# Altium integrated library TI_Logic_Flip-Flop,Latch,Register.IntLib: 2598 symbols (part 41 of 122)
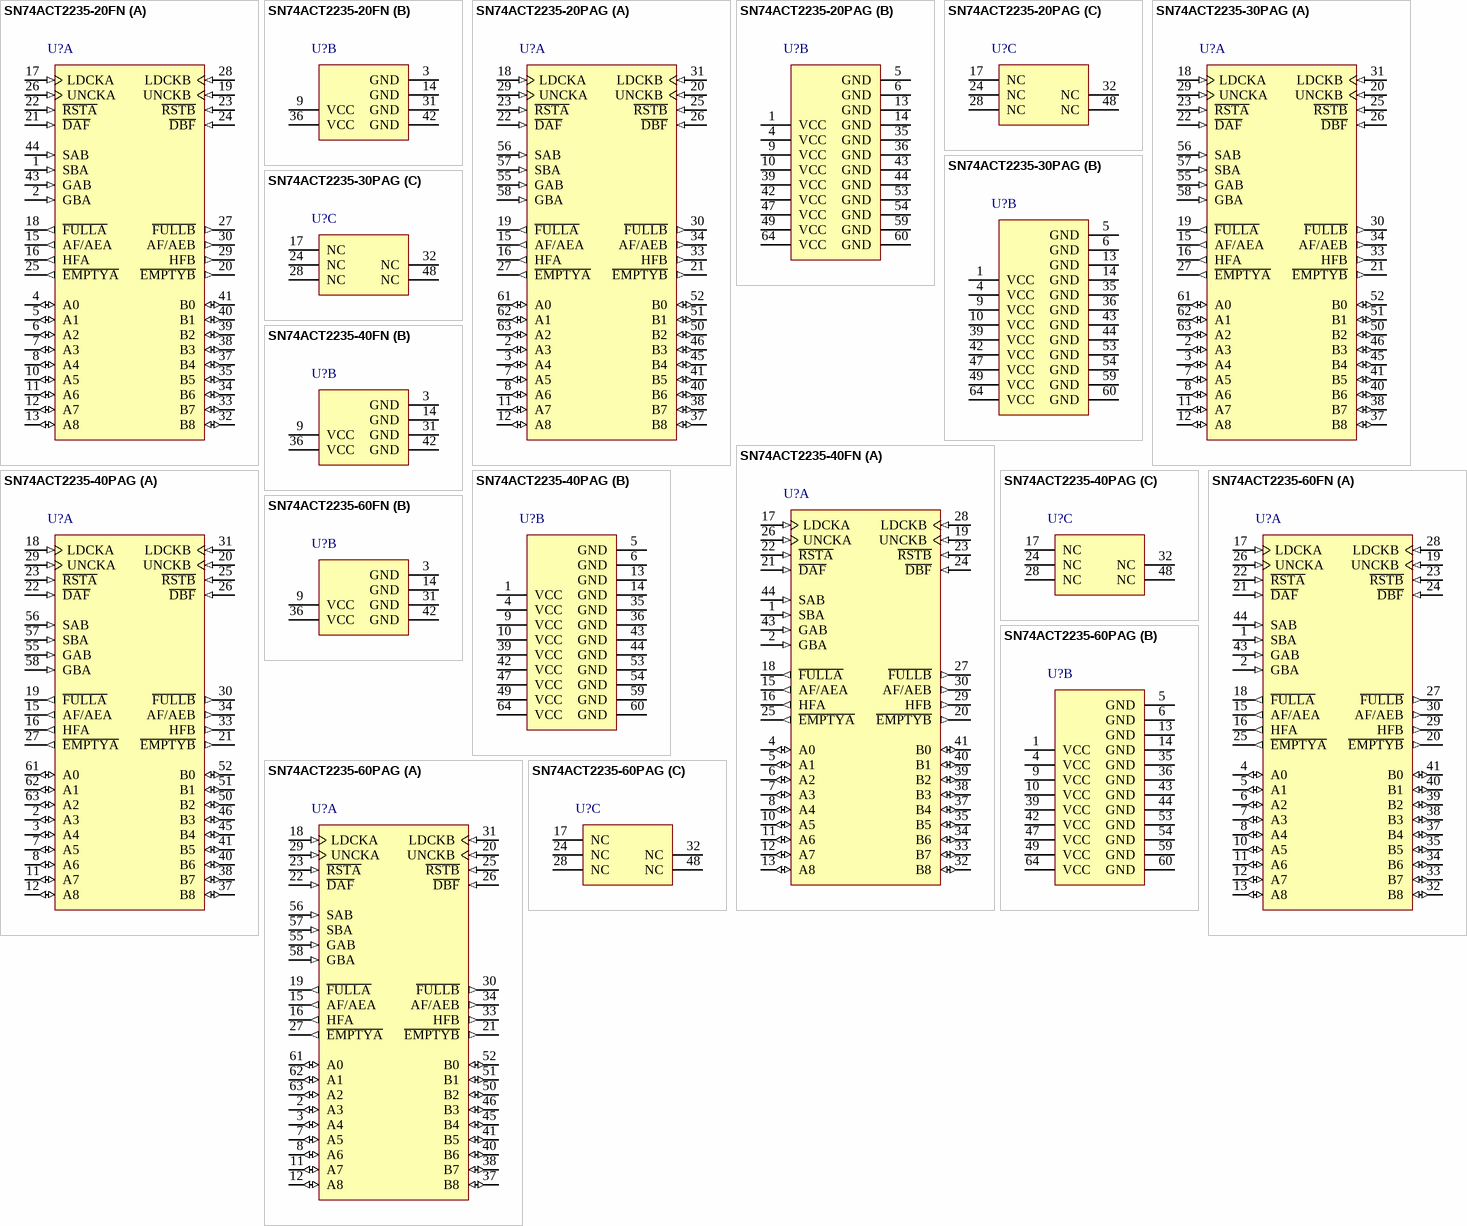
[diagram p179: symbols SN74ACT2235-20FN to SN74ACT2235-60PAG]

## SN74ACT2235-40FN
designator U?
1024 x 9 x 2 Asynchronous Bidirectional FIFO Memory, FN0044A, TUBE; Generic Part Number: SN74ACT2235; Manufacturer: Texas Instruments; PartNumber: SN74ACT2235-40FN; Vcc range(V): 4.5 to 5.5; Fmax(MHz): 25; Voltage Nodes(V): 5; Sync/Async: A; Rating: Catalog; Output Drive(mA): -0.5; Flags Empty: YES; DatasheetVersion: SCAS148F; PackageReference: FN0044A; Depth: 1024; Width: 9; Operating Temperature Range(C): 0 to 70; Flags Full: YES; Flags Half: YES; Code_JEDEC: MS-018; ComponentLink1Description: Manufacturer URL; ComponentLink1URL: http://www.ti.com/; ComponentLink2Description: Datasheet; ComponentLink2URL: http://www.ti.com/lit/ds/symlink/sn74act2235.pdf; ComponentLink3Description: Package Specification; ComponentLink3URL: http://www.ti.com/lit/ml/mplc004a/mplc004a.pdf
footprint FN0044A_N (PLCC, 44-Leads, Body 16.66x16.66mm, Pitch 1.27mm, IPC Medium Density)
footprint FN0044A_M (PLCC, 44-Leads, Body 16.66x16.66mm, Pitch 1.27mm, IPC Low Density)
footprint FN0044A_L (PLCC, 44-Leads, Body 16.66x16.66mm, Pitch 1.27mm, IPC High Density)
part A pins: 1 SBA (in) "Select-control inputs. SAB and SBA select whether real-time or stored data is transferred. A low level selects real-time data and a high level selects stored data. Eight fundamental bus-management functions can be performed (See Datasheet)", 2 GBA (in) "Output enables. GAB, GBA control the transceiver functions. When GBA is low, A0-A8 are in the high-impedance state. When GAB is low, B0-B8 are in the high-impedance state.", 4 A0 (io) "A-data inputs and outputs", 5 A1 (io) "A-data inputs and outputs", 6 A2 (io) "A-data inputs and outputs", 7 A3 (io) "A-data inputs and outputs", 8 A4 (io) "A-data inputs and outputs", 10 A5 (io) "A-data inputs and outputs", 11 A6 (io) "A-data inputs and outputs", 12 A7 (io) "A-data inputs and outputs", 13 A8 (io) "A-data inputs and outputs", 15 AF/AEA (out) "Almost full/almost empty flags. The almost-full/almost-empty A flag (AF/AEA) is defined by the almost-full/almost-empty offset value for FIFO A (X). AF/AEA is high when FIFO A contains X or fewer words or 1024 - X words. (See Datasheet)", 16 HFA (out) "Half-full flags. HFA and HFB are high when their corresponding memories contain 512 or more words and low when they contain 511 or fewer words.", 17 LDCKA (in) "Load clocks. Data on A0-A8 is written into FIFO A on a low-to-high transition of LDCKA. Data on B0-B8 is written into FIFO B on a low-to-high transition of LDCKB. When the FIFOs are full, LDCKA and LDCKB have no effect on (See Datasheet)", 18 ~{FULLA} (out) "Full flags. F\U\L\L\A\ and F\U\L\L\B\ are low when their corresponding memories are full and high when they are not full.", 19 UNCKB (in) "Unload clocks. Data in FIFO A is read to B0-B8 on a low-to-high transition of UNCKA. Data in FIFO B is read to A0-A8 on a low-to-high transition of UNCKB. When the FIFOs are empty, UNCKA and UNCKB have no effect on data (See Datasheet)", 20 ~{EMPTYB} (out) "Empty flags. E\M\P\T\Y\A\ and E\M\P\T\Y\B\ are low when their corresponding memories are empty and high when they are not empty.", 21 ~{DAF} (in) "Define-flag inputs. The high-to-low transition of D\A\F\ stores the binary value on A0-A8 as the almost-full/almost-empty offset value for FIFO A (X). The high-to-low transition of D\B\F\ stores the binary value of B0-B8 as (See Datasheet)", 22 ~{RSTA} (in) "Reset. A reset is accomplished in each direction by taking R\S\T\A\ and R\S\T\B\ low. This sets E\M\P\T\Y\A\, E\M\P\T\Y\B\, F\U\L\L\A\, F\U\L\L\B\, and AF/AEB high. Both FIFOs must be reset upon power up.", 23 ~{RSTB} (in) "Reset. A reset is accomplished in each direction by taking R\S\T\A\ and R\S\T\B\ low. This sets E\M\P\T\Y\A\, E\M\P\T\Y\B\, F\U\L\L\A\, F\U\L\L\B\, and AF/AEB high. Both FIFOs must be reset upon power up.", 24 ~{DBF} (in) "Define-flag inputs. The high-to-low transition of D\A\F\ stores the binary value on A0-A8 as the almost-full/almost-empty offset value for FIFO A (X). The high-to-low transition of D\B\F\ stores the binary value of B0-B8 as (See Datasheet)", 25 ~{EMPTYA} (out) "Empty flags. E\M\P\T\Y\A\ and E\M\P\T\Y\B\ are low when their corresponding memories are empty and high when they are not empty.", 26 UNCKA (in) "Unload clocks. Data in FIFO A is read to B0-B8 on a low-to-high transition of UNCKA. Data in FIFO B is read to A0-A8 on a low-to-high transition of UNCKB. When the FIFOs are empty, UNCKA and UNCKB have no effect on data (See Datasheet)", 27 ~{FULLB} (out) "Full flags. F\U\L\L\A\ and F\U\L\L\B\ are low when their corresponding memories are full and high when they are not full.", 28 LDCKB (in) "Load clocks. Data on A0-A8 is written into FIFO A on a low-to-high transition of LDCKA. Data on B0-B8 is written into FIFO B on a low-to-high transition of LDCKB. When the FIFOs are full, LDCKA and LDCKB have no effect on (See Datasheet)", 29 HFB (out) "Half-full flags. HFA and HFB are high when their corresponding memories contain 512 or more words and low when they contain 511 or fewer words.", 30 AF/AEB (out) "Almost full/almost empty flags. The almost-full/almost-empty A flag (AF/AEA) is defined by the almost-full/almost-empty offset value for FIFO A (X). AF/AEA is high when FIFO A contains X or fewer words or 1024 - X words. (See Datasheet)", 32 B8 (io) "B-data inputs and outputs", 33 B7 (io) "B-data inputs and outputs", 34 B6 (io) "B-data inputs and outputs", 35 B5 (io) "B-data inputs and outputs", 37 B4 (io) "B-data inputs and outputs", 38 B3 (io) "B-data inputs and outputs", 39 B2 (io) "B-data inputs and outputs", 40 B1 (io) "B-data inputs and outputs", 41 B0 (io) "B-data inputs and outputs", 43 GAB (in) "Output enables. GAB, GBA control the transceiver functions. When GBA is low, A0-A8 are in the high-impedance state. When GAB is low, B0-B8 are in the high-impedance state.", 44 SAB (in) "Select-control inputs. SAB and SBA select whether real-time or stored data is transferred. A low level selects real-time data and a high level selects stored data. Eight fundamental bus-management functions can be performed (See Datasheet)"
part B pins: 3 GND (power), 9 VCC (power), 14 GND (power), 31 GND (power), 36 VCC (power), 42 GND (power)

## SN74ACT2235-40PAG
designator U?
1024 x 9 x 2 Asynchronous Bidirectional FIFO Memory, PAG0064A, JEDEC TRAY (10+1); Generic Part Number: SN74ACT2235; Manufacturer: Texas Instruments; PartNumber: SN74ACT2235-40PAG; Vcc range(V): 4.5 to 5.5; Fmax(MHz): 25; Voltage Nodes(V): 5; Sync/Async: A; Rating: Catalog; Output Drive(mA): -0.5; Flags Empty: YES; DatasheetVersion: SCAS148F; PackageReference: PAG0064A; Depth: 1024; Width: 9; Operating Temperature Range(C): 0 to 70; Flags Full: YES; Flags Half: YES; Code_JEDEC: MS-026; ComponentLink1Description: Manufacturer URL; ComponentLink1URL: http://www.ti.com/; ComponentLink2Description: Datasheet; ComponentLink2URL: http://www.ti.com/lit/ds/symlink/sn74act2235.pdf; ComponentLink3Description: Package Specification; ComponentLink3URL: http://www.ti.com/lit/ml/mtqf006a/mtqf006a.pdf
footprint PAG0064A_N (QFP, 64-Leads, Body 10x10mm, Pitch 0.5mm, IPC Medium Density)
footprint PAG0064A_M (QFP, 64-Leads, Body 10x10mm, Pitch 0.5mm, IPC Low Density)
footprint PAG0064A_L (QFP, 64-Leads, Body 10x10mm, Pitch 0.5mm, IPC High Density)
part A pins: 2 A3 (io) "A-data inputs and outputs", 3 A4 (io) "A-data inputs and outputs", 7 A5 (io) "A-data inputs and outputs", 8 A6 (io) "A-data inputs and outputs", 11 A7 (io) "A-data inputs and outputs", 12 A8 (io) "A-data inputs and outputs", 15 AF/AEA (out) "Almost full/almost empty flags. The almost-full/almost-empty A flag (AF/AEA) is defined by the almost-full/almost-empty offset value for FIFO A (X). AF/AEA is high when FIFO A contains X or fewer words or 1024 - X words. (See Datasheet)", 16 HFA (out) "Half-full flags. HFA and HFB are high when their corresponding memories contain 512 or more words and low when they contain 511 or fewer words.", 18 LDCKA (in) "Load clocks. Data on A0-A8 is written into FIFO A on a low-to-high transition of LDCKA. Data on B0-B8 is written into FIFO B on a low-to-high transition of LDCKB. When the FIFOs are full, LDCKA and LDCKB have no effect on (See Datasheet)", 19 ~{FULLA} (out) "Full flags. F\U\L\L\A\ and F\U\L\L\B\ are low when their corresponding memories are full and high when they are not full.", 20 UNCKB (in) "Unload clocks. Data in FIFO A is read to B0-B8 on a low-to-high transition of UNCKA. Data in FIFO B is read to A0-A8 on a low-to-high transition of UNCKB. When the FIFOs are empty, UNCKA and UNCKB have no effect on data (See Datasheet)", 21 ~{EMPTYB} (out) "Empty flags. E\M\P\T\Y\A\ and E\M\P\T\Y\B\ are low when their corresponding memories are empty and high when they are not empty.", 22 ~{DAF} (in) "Define-flag inputs. The high-to-low transition of D\A\F\ stores the binary value on A0-A8 as the almost-full/almost-empty offset value for FIFO A (X). The high-to-low transition of D\B\F\ stores the binary value of B0-B8 as (See Datasheet)", 23 ~{RSTA} (in) "Reset. A reset is accomplished in each direction by taking R\S\T\A\ and R\S\T\B\ low. This sets E\M\P\T\Y\A\, E\M\P\T\Y\B\, F\U\L\L\A\, F\U\L\L\B\, and AF/AEB high. Both FIFOs must be reset upon power up.", 25 ~{RSTB} (in) "Reset. A reset is accomplished in each direction by taking R\S\T\A\ and R\S\T\B\ low. This sets E\M\P\T\Y\A\, E\M\P\T\Y\B\, F\U\L\L\A\, F\U\L\L\B\, and AF/AEB high. Both FIFOs must be reset upon power up.", 26 ~{DBF} (in) "Define-flag inputs. The high-to-low transition of D\A\F\ stores the binary value on A0-A8 as the almost-full/almost-empty offset value for FIFO A (X). The high-to-low transition of D\B\F\ stores the binary value of B0-B8 as (See Datasheet)", 27 ~{EMPTYA} (out) "Empty flags. E\M\P\T\Y\A\ and E\M\P\T\Y\B\ are low when their corresponding memories are empty and high when they are not empty.", 29 UNCKA (in) "Unload clocks. Data in FIFO A is read to B0-B8 on a low-to-high transition of UNCKA. Data in FIFO B is read to A0-A8 on a low-to-high transition of UNCKB. When the FIFOs are empty, UNCKA and UNCKB have no effect on data (See Datasheet)", 30 ~{FULLB} (out) "Full flags. F\U\L\L\A\ and F\U\L\L\B\ are low when their corresponding memories are full and high when they are not full.", 31 LDCKB (in) "Load clocks. Data on A0-A8 is written into FIFO A on a low-to-high transition of LDCKA. Data on B0-B8 is written into FIFO B on a low-to-high transition of LDCKB. When the FIFOs are full, LDCKA and LDCKB have no effect on (See Datasheet)", 33 HFB (out) "Half-full flags. HFA and HFB are high when their corresponding memories contain 512 or more words and low when they contain 511 or fewer words.", 34 AF/AEB (out) "Almost full/almost empty flags. The almost-full/almost-empty A flag (AF/AEA) is defined by the almost-full/almost-empty offset value for FIFO A (X). AF/AEA is high when FIFO A contains X or fewer words or 1024 - X words. (See Datasheet)", 37 B8 (io) "B-data inputs and outputs", 38 B7 (io) "B-data inputs and outputs", 40 B6 (io) "B-data inputs and outputs", 41 B5 (io) "B-data inputs and outputs", 45 B4 (io) "B-data inputs and outputs", 46 B3 (io) "B-data inputs and outputs", 50 B2 (io) "B-data inputs and outputs", 51 B1 (io) "B-data inputs and outputs", 52 B0 (io) "B-data inputs and outputs", 55 GAB (in) "Output enables. GAB, GBA control the transceiver functions. When GBA is low, A0-A8 are in the high-impedance state. When GAB is low, B0-B8 are in the high-impedance state.", 56 SAB (in) "Select-control inputs. SAB and SBA select whether real-time or stored data is transferred. A low level selects real-time data and a high level selects stored data. Eight fundamental bus-management functions can be performed (See Datasheet)", 57 SBA (in) "Select-control inputs. SAB and SBA select whether real-time or stored data is transferred. A low level selects real-time data and a high level selects stored data. Eight fundamental bus-management functions can be performed (See Datasheet)", 58 GBA (in) "Output enables. GAB, GBA control the transceiver functions. When GBA is low, A0-A8 are in the high-impedance state. When GAB is low, B0-B8 are in the high-impedance state.", 61 A0 (io) "A-data inputs and outputs", 62 A1 (io) "A-data inputs and outputs", 63 A2 (io) "A-data inputs and outputs"
part B pins: 1 VCC (power), 4 VCC (power), 5 GND (power), 6 GND (power), 9 VCC (power), 10 VCC (power), 13 GND (power), 14 GND (power), 35 GND (power), 36 GND (power), 39 VCC (power), 42 VCC (power), 43 GND (power), 44 GND (power), 47 VCC (power), 49 VCC (power), 53 GND (power), 54 GND (power), 59 GND (power), 60 GND (power), 64 VCC (power)
part C pins: 17 NC "No internal connection", 24 NC "No internal connection", 28 NC "No internal connection", 32 NC "No internal connection", 48 NC "No internal connection"

## SN74ACT2235-60FN
designator U?
1024 x 9 x 2 Asynchronous Bidirectional FIFO Memory, FN0044A, TUBE; Generic Part Number: SN74ACT2235; Manufacturer: Texas Instruments; PartNumber: SN74ACT2235-60FN; Vcc range(V): 4.5 to 5.5; Fmax(MHz): 16.7; Voltage Nodes(V): 5; Sync/Async: A; Rating: Catalog; Output Drive(mA): -0.5; Flags Empty: YES; DatasheetVersion: SCAS148F; PackageReference: FN0044A; Depth: 1024; Width: 9; Operating Temperature Range(C): 0 to 70; Flags Full: YES; Flags Half: YES; Code_JEDEC: MS-018; ComponentLink1Description: Manufacturer URL; ComponentLink1URL: http://www.ti.com/; ComponentLink2Description: Datasheet; ComponentLink2URL: http://www.ti.com/lit/ds/symlink/sn74act2235.pdf; ComponentLink3Description: Package Specification; ComponentLink3URL: http://www.ti.com/lit/ml/mplc004a/mplc004a.pdf
footprint FN0044A_N (PLCC, 44-Leads, Body 16.66x16.66mm, Pitch 1.27mm, IPC Medium Density)
footprint FN0044A_M (PLCC, 44-Leads, Body 16.66x16.66mm, Pitch 1.27mm, IPC Low Density)
footprint FN0044A_L (PLCC, 44-Leads, Body 16.66x16.66mm, Pitch 1.27mm, IPC High Density)
part A pins: 1 SBA (in) "Select-control inputs. SAB and SBA select whether real-time or stored data is transferred. A low level selects real-time data and a high level selects stored data. Eight fundamental bus-management functions can be performed (See Datasheet)", 2 GBA (in) "Output enables. GAB, GBA control the transceiver functions. When GBA is low, A0-A8 are in the high-impedance state. When GAB is low, B0-B8 are in the high-impedance state.", 4 A0 (io) "A-data inputs and outputs", 5 A1 (io) "A-data inputs and outputs", 6 A2 (io) "A-data inputs and outputs", 7 A3 (io) "A-data inputs and outputs", 8 A4 (io) "A-data inputs and outputs", 10 A5 (io) "A-data inputs and outputs", 11 A6 (io) "A-data inputs and outputs", 12 A7 (io) "A-data inputs and outputs", 13 A8 (io) "A-data inputs and outputs", 15 AF/AEA (out) "Almost full/almost empty flags. The almost-full/almost-empty A flag (AF/AEA) is defined by the almost-full/almost-empty offset value for FIFO A (X). AF/AEA is high when FIFO A contains X or fewer words or 1024 - X words. (See Datasheet)", 16 HFA (out) "Half-full flags. HFA and HFB are high when their corresponding memories contain 512 or more words and low when they contain 511 or fewer words.", 17 LDCKA (in) "Load clocks. Data on A0-A8 is written into FIFO A on a low-to-high transition of LDCKA. Data on B0-B8 is written into FIFO B on a low-to-high transition of LDCKB. When the FIFOs are full, LDCKA and LDCKB have no effect on (See Datasheet)", 18 ~{FULLA} (out) "Full flags. F\U\L\L\A\ and F\U\L\L\B\ are low when their corresponding memories are full and high when they are not full.", 19 UNCKB (in) "Unload clocks. Data in FIFO A is read to B0-B8 on a low-to-high transition of UNCKA. Data in FIFO B is read to A0-A8 on a low-to-high transition of UNCKB. When the FIFOs are empty, UNCKA and UNCKB have no effect on data (See Datasheet)", 20 ~{EMPTYB} (out) "Empty flags. E\M\P\T\Y\A\ and E\M\P\T\Y\B\ are low when their corresponding memories are empty and high when they are not empty.", 21 ~{DAF} (in) "Define-flag inputs. The high-to-low transition of D\A\F\ stores the binary value on A0-A8 as the almost-full/almost-empty offset value for FIFO A (X). The high-to-low transition of D\B\F\ stores the binary value of B0-B8 as (See Datasheet)", 22 ~{RSTA} (in) "Reset. A reset is accomplished in each direction by taking R\S\T\A\ and R\S\T\B\ low. This sets E\M\P\T\Y\A\, E\M\P\T\Y\B\, F\U\L\L\A\, F\U\L\L\B\, and AF/AEB high. Both FIFOs must be reset upon power up.", 23 ~{RSTB} (in) "Reset. A reset is accomplished in each direction by taking R\S\T\A\ and R\S\T\B\ low. This sets E\M\P\T\Y\A\, E\M\P\T\Y\B\, F\U\L\L\A\, F\U\L\L\B\, and AF/AEB high. Both FIFOs must be reset upon power up.", 24 ~{DBF} (in) "Define-flag inputs. The high-to-low transition of D\A\F\ stores the binary value on A0-A8 as the almost-full/almost-empty offset value for FIFO A (X). The high-to-low transition of D\B\F\ stores the binary value of B0-B8 as (See Datasheet)", 25 ~{EMPTYA} (out) "Empty flags. E\M\P\T\Y\A\ and E\M\P\T\Y\B\ are low when their corresponding memories are empty and high when they are not empty.", 26 UNCKA (in) "Unload clocks. Data in FIFO A is read to B0-B8 on a low-to-high transition of UNCKA. Data in FIFO B is read to A0-A8 on a low-to-high transition of UNCKB. When the FIFOs are empty, UNCKA and UNCKB have no effect on data (See Datasheet)", 27 ~{FULLB} (out) "Full flags. F\U\L\L\A\ and F\U\L\L\B\ are low when their corresponding memories are full and high when they are not full.", 28 LDCKB (in) "Load clocks. Data on A0-A8 is written into FIFO A on a low-to-high transition of LDCKA. Data on B0-B8 is written into FIFO B on a low-to-high transition of LDCKB. When the FIFOs are full, LDCKA and LDCKB have no effect on (See Datasheet)", 29 HFB (out) "Half-full flags. HFA and HFB are high when their corresponding memories contain 512 or more words and low when they contain 511 or fewer words.", 30 AF/AEB (out) "Almost full/almost empty flags. The almost-full/almost-empty A flag (AF/AEA) is defined by the almost-full/almost-empty offset value for FIFO A (X). AF/AEA is high when FIFO A contains X or fewer words or 1024 - X words. (See Datasheet)", 32 B8 (io) "B-data inputs and outputs", 33 B7 (io) "B-data inputs and outputs", 34 B6 (io) "B-data inputs and outputs", 35 B5 (io) "B-data inputs and outputs", 37 B4 (io) "B-data inputs and outputs", 38 B3 (io) "B-data inputs and outputs", 39 B2 (io) "B-data inputs and outputs", 40 B1 (io) "B-data inputs and outputs", 41 B0 (io) "B-data inputs and outputs", 43 GAB (in) "Output enables. GAB, GBA control the transceiver functions. When GBA is low, A0-A8 are in the high-impedance state. When GAB is low, B0-B8 are in the high-impedance state.", 44 SAB (in) "Select-control inputs. SAB and SBA select whether real-time or stored data is transferred. A low level selects real-time data and a high level selects stored data. Eight fundamental bus-management functions can be performed (See Datasheet)"
part B pins: 3 GND (power), 9 VCC (power), 14 GND (power), 31 GND (power), 36 VCC (power), 42 GND (power)

## SN74ACT2235-60PAG
designator U?
1024 x 9 x 2 Asynchronous Bidirectional FIFO Memory, PAG0064A, JEDEC TRAY (10+1); Generic Part Number: SN74ACT2235; Manufacturer: Texas Instruments; PartNumber: SN74ACT2235-60PAG; Vcc range(V): 4.5 to 5.5; Fmax(MHz): 16.7; Voltage Nodes(V): 5; Sync/Async: A; Rating: Catalog; Output Drive(mA): -0.5; Flags Empty: YES; DatasheetVersion: SCAS148F; PackageReference: PAG0064A; Depth: 1024; Width: 9; Operating Temperature Range(C): 0 to 70; Flags Full: YES; Flags Half: YES; Code_JEDEC: MS-026; ComponentLink1Description: Manufacturer URL; ComponentLink1URL: http://www.ti.com/; ComponentLink2Description: Datasheet; ComponentLink2URL: http://www.ti.com/lit/ds/symlink/sn74act2235.pdf; ComponentLink3Description: Package Specification; ComponentLink3URL: http://www.ti.com/lit/ml/mtqf006a/mtqf006a.pdf
footprint PAG0064A_N (QFP, 64-Leads, Body 10x10mm, Pitch 0.5mm, IPC Medium Density)
footprint PAG0064A_M (QFP, 64-Leads, Body 10x10mm, Pitch 0.5mm, IPC Low Density)
footprint PAG0064A_L (QFP, 64-Leads, Body 10x10mm, Pitch 0.5mm, IPC High Density)
part A pins: 2 A3 (io) "A-data inputs and outputs", 3 A4 (io) "A-data inputs and outputs", 7 A5 (io) "A-data inputs and outputs", 8 A6 (io) "A-data inputs and outputs", 11 A7 (io) "A-data inputs and outputs", 12 A8 (io) "A-data inputs and outputs", 15 AF/AEA (out) "Almost full/almost empty flags. The almost-full/almost-empty A flag (AF/AEA) is defined by the almost-full/almost-empty offset value for FIFO A (X). AF/AEA is high when FIFO A contains X or fewer words or 1024 - X words. (See Datasheet)", 16 HFA (out) "Half-full flags. HFA and HFB are high when their corresponding memories contain 512 or more words and low when they contain 511 or fewer words.", 18 LDCKA (in) "Load clocks. Data on A0-A8 is written into FIFO A on a low-to-high transition of LDCKA. Data on B0-B8 is written into FIFO B on a low-to-high transition of LDCKB. When the FIFOs are full, LDCKA and LDCKB have no effect on (See Datasheet)", 19 ~{FULLA} (out) "Full flags. F\U\L\L\A\ and F\U\L\L\B\ are low when their corresponding memories are full and high when they are not full.", 20 UNCKB (in) "Unload clocks. Data in FIFO A is read to B0-B8 on a low-to-high transition of UNCKA. Data in FIFO B is read to A0-A8 on a low-to-high transition of UNCKB. When the FIFOs are empty, UNCKA and UNCKB have no effect on data (See Datasheet)", 21 ~{EMPTYB} (out) "Empty flags. E\M\P\T\Y\A\ and E\M\P\T\Y\B\ are low when their corresponding memories are empty and high when they are not empty.", 22 ~{DAF} (in) "Define-flag inputs. The high-to-low transition of D\A\F\ stores the binary value on A0-A8 as the almost-full/almost-empty offset value for FIFO A (X). The high-to-low transition of D\B\F\ stores the binary value of B0-B8 as (See Datasheet)", 23 ~{RSTA} (in) "Reset. A reset is accomplished in each direction by taking R\S\T\A\ and R\S\T\B\ low. This sets E\M\P\T\Y\A\, E\M\P\T\Y\B\, F\U\L\L\A\, F\U\L\L\B\, and AF/AEB high. Both FIFOs must be reset upon power up.", 25 ~{RSTB} (in) "Reset. A reset is accomplished in each direction by taking R\S\T\A\ and R\S\T\B\ low. This sets E\M\P\T\Y\A\, E\M\P\T\Y\B\, F\U\L\L\A\, F\U\L\L\B\, and AF/AEB high. Both FIFOs must be reset upon power up.", 26 ~{DBF} (in) "Define-flag inputs. The high-to-low transition of D\A\F\ stores the binary value on A0-A8 as the almost-full/almost-empty offset value for FIFO A (X). The high-to-low transition of D\B\F\ stores the binary value of B0-B8 as (See Datasheet)", 27 ~{EMPTYA} (out) "Empty flags. E\M\P\T\Y\A\ and E\M\P\T\Y\B\ are low when their corresponding memories are empty and high when they are not empty.", 29 UNCKA (in) "Unload clocks. Data in FIFO A is read to B0-B8 on a low-to-high transition of UNCKA. Data in FIFO B is read to A0-A8 on a low-to-high transition of UNCKB. When the FIFOs are empty, UNCKA and UNCKB have no effect on data (See Datasheet)", 30 ~{FULLB} (out) "Full flags. F\U\L\L\A\ and F\U\L\L\B\ are low when their corresponding memories are full and high when they are not full.", 31 LDCKB (in) "Load clocks. Data on A0-A8 is written into FIFO A on a low-to-high transition of LDCKA. Data on B0-B8 is written into FIFO B on a low-to-high transition of LDCKB. When the FIFOs are full, LDCKA and LDCKB have no effect on (See Datasheet)", 33 HFB (out) "Half-full flags. HFA and HFB are high when their corresponding memories contain 512 or more words and low when they contain 511 or fewer words.", 34 AF/AEB (out) "Almost full/almost empty flags. The almost-full/almost-empty A flag (AF/AEA) is defined by the almost-full/almost-empty offset value for FIFO A (X). AF/AEA is high when FIFO A contains X or fewer words or 1024 - X words. (See Datasheet)", 37 B8 (io) "B-data inputs and outputs", 38 B7 (io) "B-data inputs and outputs", 40 B6 (io) "B-data inputs and outputs", 41 B5 (io) "B-data inputs and outputs", 45 B4 (io) "B-data inputs and outputs", 46 B3 (io) "B-data inputs and outputs", 50 B2 (io) "B-data inputs and outputs", 51 B1 (io) "B-data inputs and outputs", 52 B0 (io) "B-data inputs and outputs", 55 GAB (in) "Output enables. GAB, GBA control the transceiver functions. When GBA is low, A0-A8 are in the high-impedance state. When GAB is low, B0-B8 are in the high-impedance state.", 56 SAB (in) "Select-control inputs. SAB and SBA select whether real-time or stored data is transferred. A low level selects real-time data and a high level selects stored data. Eight fundamental bus-management functions can be performed (See Datasheet)", 57 SBA (in) "Select-control inputs. SAB and SBA select whether real-time or stored data is transferred. A low level selects real-time data and a high level selects stored data. Eight fundamental bus-management functions can be performed (See Datasheet)", 58 GBA (in) "Output enables. GAB, GBA control the transceiver functions. When GBA is low, A0-A8 are in the high-impedance state. When GAB is low, B0-B8 are in the high-impedance state.", 61 A0 (io) "A-data inputs and outputs", 62 A1 (io) "A-data inputs and outputs", 63 A2 (io) "A-data inputs and outputs"
part B pins: 1 VCC (power), 4 VCC (power), 5 GND (power), 6 GND (power), 9 VCC (power), 10 VCC (power), 13 GND (power), 14 GND (power), 35 GND (power), 36 GND (power), 39 VCC (power), 42 VCC (power), 43 GND (power), 44 GND (power), 47 VCC (power), 49 VCC (power), 53 GND (power), 54 GND (power), 59 GND (power), 60 GND (power), 64 VCC (power)
part C pins: 17 NC "No internal connection", 24 NC "No internal connection", 28 NC "No internal connection", 32 NC "No internal connection", 48 NC "No internal connection"

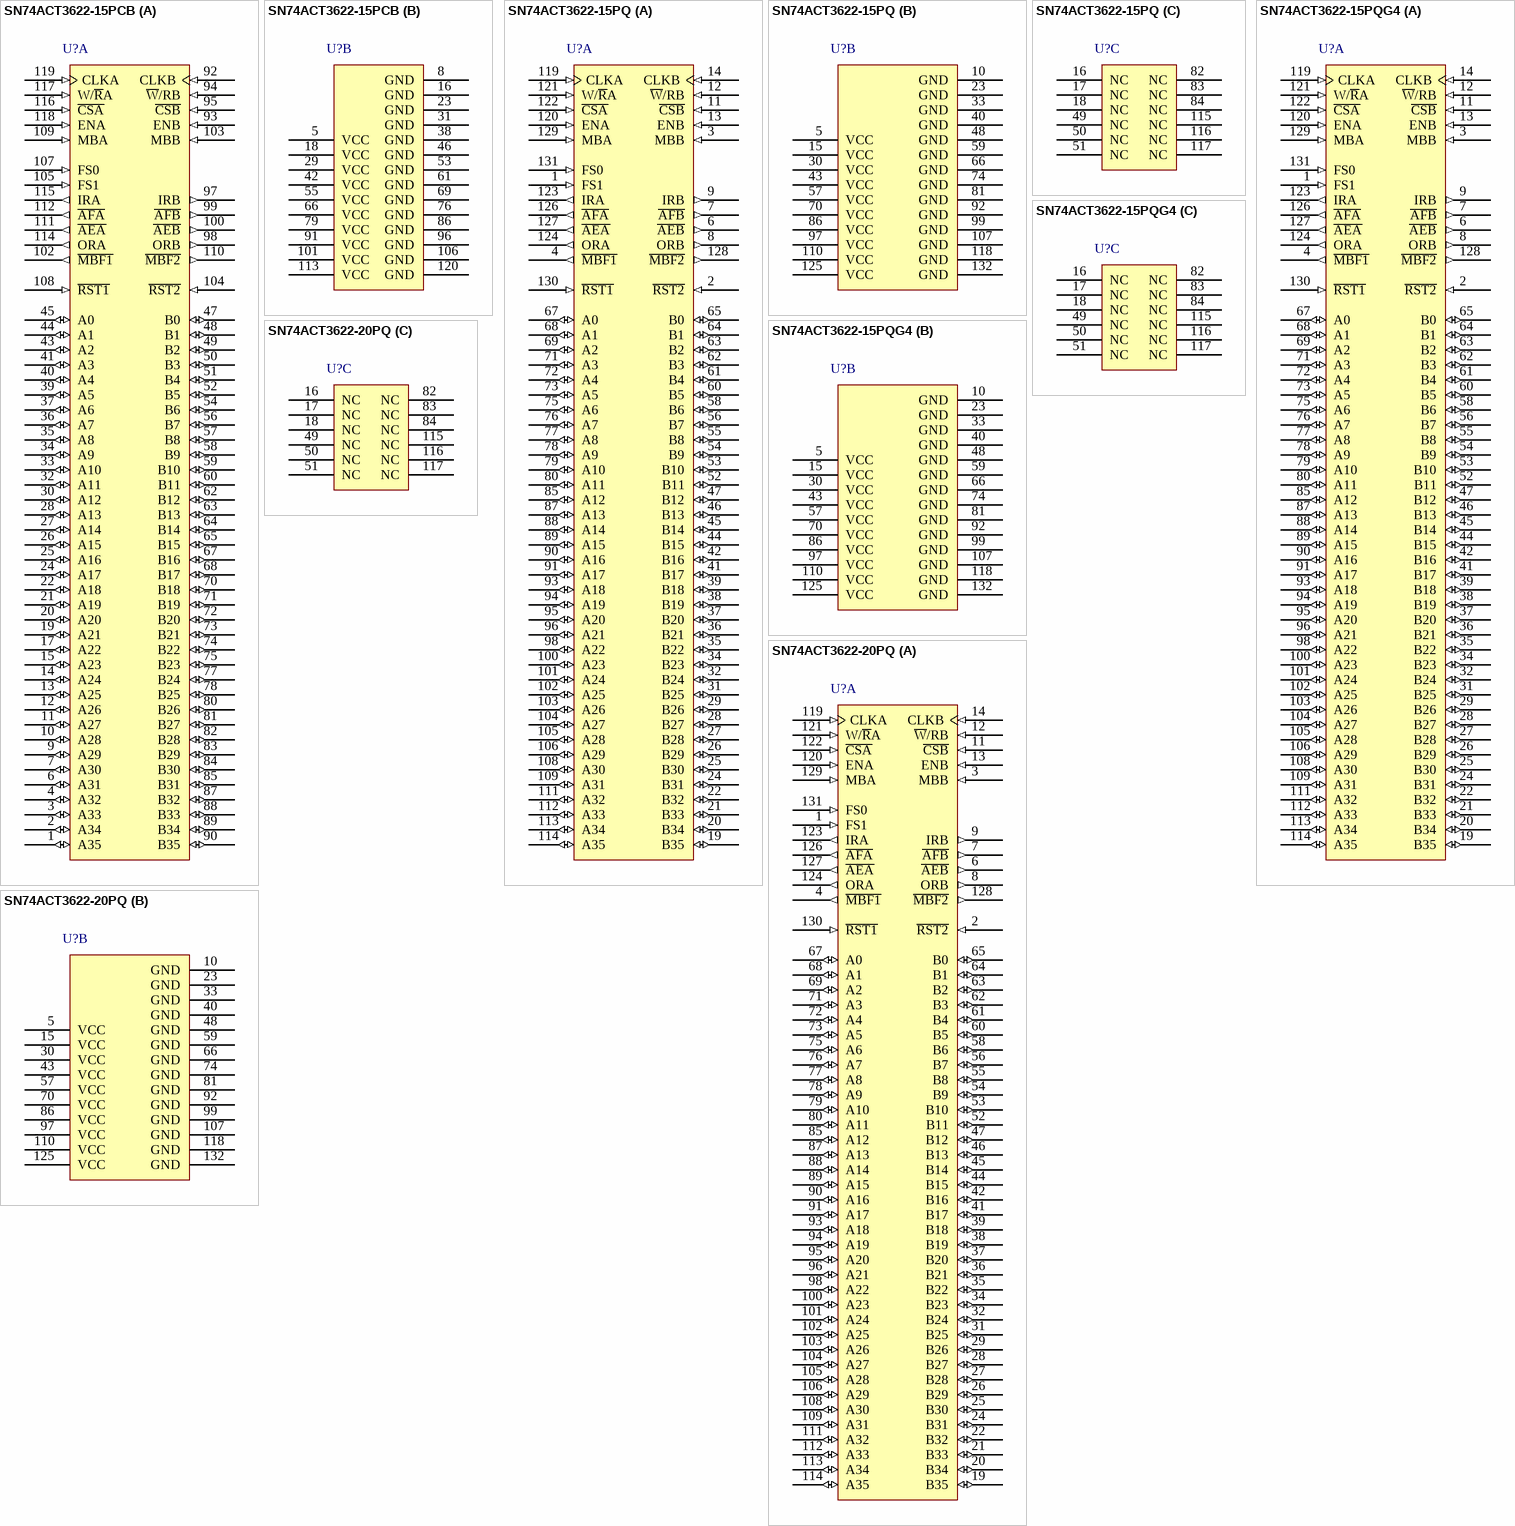
[diagram p54: symbols SN74ACT3622-15PCB to SN74ACT3622-20PQ]

## SN74ACT3622-15PCB
designator U?
256 x 36 x 2 bidirectional synchronous FIFO memory, PCB0120A, JEDEC TRAY (5+1); Generic Part Number: SN74ACT3622; Manufacturer: Texas Instruments; PartNumber: SN74ACT3622-15PCB; Vcc range(V): 4.5 to 5.5; Fmax(MHz): 67; Voltage Nodes(V): 5; Sync/Async: S; Rating: Catalog; Output Drive(mA): -0.5; DatasheetVersion: SCAS247D; PackageReference: PCB0120A; Depth: 255; Width: 36; Operating Temperature Range(C): 0 to 70; Code_JEDEC: MS-026; ComponentLink1Description: Manufacturer URL; ComponentLink1URL: http://www.ti.com/; ComponentLink2Description: Datasheet; ComponentLink2URL: http://www.ti.com/lit/ds/symlink/sn74act3622.pdf; ComponentLink3Description: Package Specification; ComponentLink3URL: http://www.ti.com/lit/ml/mhtq004a/mhtq004a.pdf
footprint PCB0120A_N (QFP, 120-Leads, Body 14x14mm, Pitch 0.4mm, IPC Medium Density)
footprint PCB0120A_M (QFP, 120-Leads, Body 14x14mm, Pitch 0.4mm, IPC Low Density)
footprint PCB0120A_L (QFP, 120-Leads, Body 14x14mm, Pitch 0.4mm, IPC High Density)
part A pins: 1 A35 (io) "Port-A data. The 36-bit bidirectional data port for side A.", 2 A34 (io) "Port-A data. The 36-bit bidirectional data port for side A.", 3 A33 (io) "Port-A data. The 36-bit bidirectional data port for side A.", 4 A32 (io) "Port-A data. The 36-bit bidirectional data port for side A.", 6 A31 (io) "Port-A data. The 36-bit bidirectional data port for side A.", 7 A30 (io) "Port-A data. The 36-bit bidirectional data port for side A.", 9 A29 (io) "Port-A data. The 36-bit bidirectional data port for side A.", 10 A28 (io) "Port-A data. The 36-bit bidirectional data port for side A.", 11 A27 (io) "Port-A data. The 36-bit bidirectional data port for side A.", 12 A26 (io) "Port-A data. The 36-bit bidirectional data port for side A.", 13 A25 (io) "Port-A data. The 36-bit bidirectional data port for side A.", 14 A24 (io) "Port-A data. The 36-bit bidirectional data port for side A.", 15 A23 (io) "Port-A data. The 36-bit bidirectional data port for side A.", 17 A22 (io) "Port-A data. The 36-bit bidirectional data port for side A.", 19 A21 (io) "Port-A data. The 36-bit bidirectional data port for side A.", 20 A20 (io) "Port-A data. The 36-bit bidirectional data port for side A.", 21 A19 (io) "Port-A data. The 36-bit bidirectional data port for side A.", 22 A18 (io) "Port-A data. The 36-bit bidirectional data port for side A.", 24 A17 (io) "Port-A data. The 36-bit bidirectional data port for side A.", 25 A16 (io) "Port-A data. The 36-bit bidirectional data port for side A.", 26 A15 (io) "Port-A data. The 36-bit bidirectional data port for side A.", 27 A14 (io) "Port-A data. The 36-bit bidirectional data port for side A.", 28 A13 (io) "Port-A data. The 36-bit bidirectional data port for side A.", 30 A12 (io) "Port-A data. The 36-bit bidirectional data port for side A.", 32 A11 (io) "Port-A data. The 36-bit bidirectional data port for side A.", 33 A10 (io) "Port-A data. The 36-bit bidirectional data port for side A.", 34 A9 (io) "Port-A data. The 36-bit bidirectional data port for side A.", 35 A8 (io) "Port-A data. The 36-bit bidirectional data port for side A.", 36 A7 (io) "Port-A data. The 36-bit bidirectional data port for side A.", 37 A6 (io) "Port-A data. The 36-bit bidirectional data port for side A.", 39 A5 (io) "Port-A data. The 36-bit bidirectional data port for side A.", 40 A4 (io) "Port-A data. The 36-bit bidirectional data port for side A.", 41 A3 (io) "Port-A data. The 36-bit bidirectional data port for side A.", 43 A2 (io) "Port-A data. The 36-bit bidirectional data port for side A.", 44 A1 (io) "Port-A data. The 36-bit bidirectional data port for side A.", 45 A0 (io) "Port-A data. The 36-bit bidirectional data port for side A.", 47 B0 (io) "Port-B data. The 36-bit bidirectional data port for side B.", 48 B1 (io) "Port-B data. The 36-bit bidirectional data port for side B.", 49 B2 (io) "Port-B data. The 36-bit bidirectional data port for side B.", 50 B3 (io) "Port-B data. The 36-bit bidirectional data port for side B.", 51 B4 (io) "Port-B data. The 36-bit bidirectional data port for side B.", 52 B5 (io) "Port-B data. The 36-bit bidirectional data port for side B.", 54 B6 (io) "Port-B data. The 36-bit bidirectional data port for side B.", 56 B7 (io) "Port-B data. The 36-bit bidirectional data port for side B.", 57 B8 (io) "Port-B data. The 36-bit bidirectional data port for side B.", 58 B9 (io) "Port-B data. The 36-bit bidirectional data port for side B.", 59 B10 (io) "Port-B data. The 36-bit bidirectional data port for side B.", 60 B11 (io) "Port-B data. The 36-bit bidirectional data port for side B.", 62 B12 (io) "Port-B data. The 36-bit bidirectional data port for side B.", 63 B13 (io) "Port-B data. The 36-bit bidirectional data port for side B.", 64 B14 (io) "Port-B data. The 36-bit bidirectional data port for side B.", 65 B15 (io) "Port-B data. The 36-bit bidirectional data port for side B.", 67 B16 (io) "Port-B data. The 36-bit bidirectional data port for side B.", 68 B17 (io) "Port-B data. The 36-bit bidirectional data port for side B.", 70 B18 (io) "Port-B data. The 36-bit bidirectional data port for side B.", 71 B19 (io) "Port-B data. The 36-bit bidirectional data port for side B.", 72 B20 (io) "Port-B data. The 36-bit bidirectional data port for side B.", 73 B21 (io) "Port-B data. The 36-bit bidirectional data port for side B.", 74 B22 (io) "Port-B data. The 36-bit bidirectional data port for side B.", 75 B23 (io) "Port-B data. The 36-bit bidirectional data port for side B.", 77 B24 (io) "Port-B data. The 36-bit bidirectional data port for side B.", 78 B25 (io) "Port-B data. The 36-bit bidirectional data port for side B.", 80 B26 (io) "Port-B data. The 36-bit bidirectional data port for side B.", 81 B27 (io) "Port-B data. The 36-bit bidirectional data port for side B.", 82 B28 (io) "Port-B data. The 36-bit bidirectional data port for side B.", 83 B29 (io) "Port-B data. The 36-bit bidirectional data port for side B.", 84 B30 (io) "Port-B data. The 36-bit bidirectional data port for side B.", 85 B31 (io) "Port-B data. The 36-bit bidirectional data port for side B.", 87 B32 (io) "Port-B data. The 36-bit bidirectional data port for side B.", 88 B33 (io) "Port-B data. The 36-bit bidirectional data port for side B.", 89 B34 (io) "Port-B data. The 36-bit bidirectional data port for side B.", 90 B35 (io) "Port-B data. The 36-bit bidirectional data port for side B.", 92 CLKB (in) "Port-B clock. CLKB is a continuous clock that synchronizes all data transfers through port B and can be asynchronous or coincident to CLKA. IRB, ORB, A\F\B\, and A\E\B\ are synchronized to the low-to-high transition of CLKB.", 93 ENB (in) "Port-B enable. ENB must be high to enable a low-to-high transition of CLKB to read or write data on port B.", 94 ~{W}/RB (in) "Port-B write/read select. A low on W\/RB selects a write operation and a high selects a read operation on port B for a low-to-high transition of CLKB. The B0-B35 outputs are in the high-impedance state when W\/RB is low.", 95 ~{CSB} (in) "Port-B chip select. C\S\B\ must be low to enable a low-to-high transition of CLKB to read or write data on port B. The B0-B35 outputs are in the high-impedance state when C\S\B\ is high.", 97 IRB (out) "Input-ready flag. IRB is synchronized to the low-to-high transition of CLKB. When IRB is low, FIFO2 is full and writes to its array are disabled. IRB is set low when FIFO2 is reset and is set high on the second low-to-high (See Datasheet)", 98 ORB (out) "Output-ready flag. ORB is synchronized to the low-to-high transition of CLKB. When ORB is low, FIFO1 is empty and reads from its memory are disabled. Ready data is present on the output register of FIFO1 when ORB is high. (See Datasheet)", 99 ~{AFB} (out) "Port-B almost-full flag. Programmable flag synchronized to CLKB. A\F\B\ is low when the number of empty locations in FIFO2 is less than or equal to the value in the almost-full B offset register, Y2.", 100 ~{AEB} (out) "Port-B almost-empty flag. Programmable flag synchronized to CLKB. A\E\B\ is low when the number of words in FIFO1 is less than or equal to the value in the almost-empty B offset register, X1.", 102 ~{MBF1} (out) "Mail1 register flag. M\B\F\1\ is set low by the low-to-high transition of CLKA that writes data to the mail1 register. Writes to the mail1 register are inhibited while M\B\F\1\ is low. M\B\F\1\ is set high by a low-to-high (See Datasheet)", 103 MBB (in) "Port-B mailbox select. A high level on MBB chooses a mailbox register for a port-B read or write operation. When the B0-B35 outputs are active, a high level on MBB selects data from the mail1 register for output and a low (See Datasheet)", 104 ~{RST2} (in) "FIFO2 reset. To reset FIFO2, four low-to-high transitions of CLKA and four low-to-high transitions of CLKB must occur while R\S\T\2\ is low. The low-to-high transition of R\S\T\2\ latches the status of FS0 and FS1 for A\F\B\ (See Datasheet)", 105 FS1 (in) "Flag-offset selects. The low-to-high transition of a FIFO reset input latches the values of FS0 and FS1. If either FS0 or FS1 is high when a reset input goes high, one of three preset values is selected as the offset for the (See Datasheet)", 107 FS0 (in) "Flag-offset selects. The low-to-high transition of a FIFO reset input latches the values of FS0 and FS1. If either FS0 or FS1 is high when a reset input goes high, one of three preset values is selected as the offset for the (See Datasheet)", 108 ~{RST1} (in) "FIFO1 reset. To reset FIFO1, four low-to-high transitions of CLKA and four low-to-high transitions of CLKB must occur while R\S\T\1\ is low. The low-to-high transition of R\S\T\1\ latches the status of FS0 and FS1 for A\F\A\ (See Datasheet)", 109 MBA (in) "Port-A mailbox select. A high level on MBA chooses a mailbox register for a port-A read or write operation. When the A0-A35 outputs are active, a high level on MBA selects data from the mail2 register for output and a low (See Datasheet)", 110 ~{MBF2} (out) "Mail2 register flag. M\B\F\2\ is set low by the low-to-high transition of CLKB that writes data to the mail2 register. Writes to the mail2 register are inhibited while M\B\F\2\ is low. M\B\F\2\ is set high by a low-to-high (See Datasheet)", 111 ~{AEA} (out) "Port-A almost-empty flag. Programmable flag synchronized to CLKA. A\E\A\ is low when the number of words in FIFO2 is less than or equal to the value in the almost-empty A offset register, X2.", 112 ~{AFA} (out) "Port-A almost-full flag. Programmable flag synchronized to CLKA. A\F\A\ is low when the number of empty locations in FIFO1 is less than or equal to the value in the almost-full A offset register, Y1.", 114 ORA (out) "Output-ready flag. ORA is synchronized to the low-to-high transition of CLKA. When ORA is low, FIFO2 is empty and reads from its memory are disabled. Ready data is present on the output register of FIFO2 when ORA is high. (See Datasheet)", 115 IRA (out) "Input-ready flag. IRA is synchronized to the low-to-high transition of CLKA. When IRA is low, FIFO1 is full and writes to its array are disabled. IRA is set low when FIFO1 is reset and is set high on the second low-to-high (See Datasheet)", 116 ~{CSA} (in) "Port-A chip select. C\S\A\ must be low to enable a low-to-high transition of CLKA to read or write data on port A. The A0-A35 outputs are in the high-impedance state when C\S\A\ is high.", 117 W/~{R}A (in) "Port-A write/read select. A high on W/R\A selects a write operation and a low selects a read operation on port A for a low-to-high transition of CLKA. The A0-A35 outputs are in the high-impedance state when W/R\A is high.", 118 ENA (in) "Port-A enable. ENA must be high to enable a low-to-high transition of CLKA to read or write data on port A.", 119 CLKA (in) "Port-A clock. CLKA is a continuous clock that synchronizes all data transfers through port A and can be asynchronous or coincident to CLKB. IRA, ORA, A\F\A\, and A\E\A\ are all synchronized to the low-to-high transition of (See Datasheet)"
part B pins: 5 VCC (power), 8 GND (power), 16 GND (power), 18 VCC (power), 23 GND (power), 29 VCC (power), 31 GND (power), 38 GND (power), 42 VCC (power), 46 GND (power), 53 GND (power), 55 VCC (power), 61 GND (power), 66 VCC (power), 69 GND (power), 76 GND (power), 79 VCC (power), 86 GND (power), 91 VCC (power), 96 GND (power), 101 VCC (power), 106 GND (power), 113 VCC (power), 120 GND (power)